# Altium footprint library PcbLib2.PcbLib: 1 footprints
Each footprint in its own frame and in the unit in brackets; x right, y up, seen from the top. Pads: shape width x height; smd on the part's side, far side on the other; paste and mask are expansions set on the pad; w line width, h text height; cw(c..) or ccw(c..) is an arc to the next point about the centre after c.
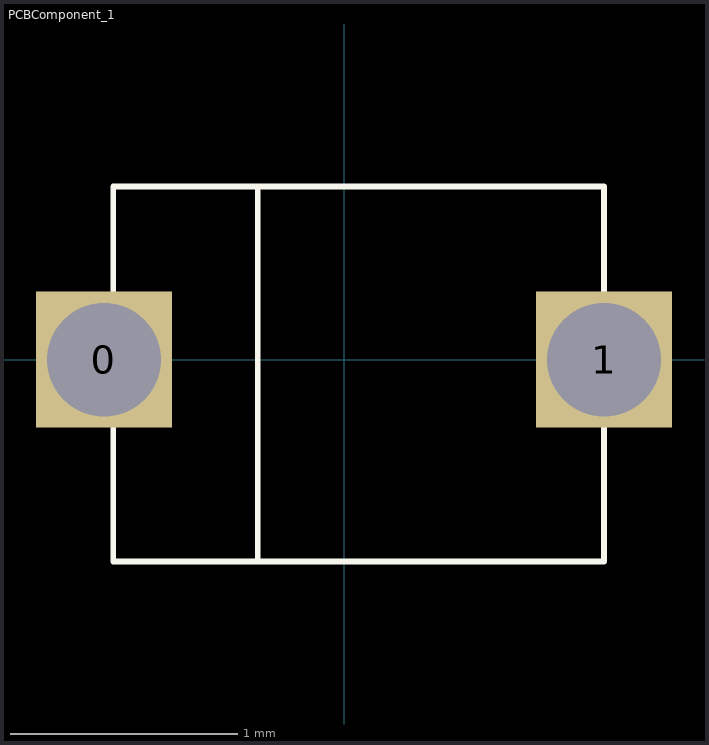
[diagram p0: the footprint, top view; thin cyan lines are the x and y axes]

## PCBComponent_1 [mm]
pads (2):
  rect 0.6x0.6 hole 0.5 square: 0(-1.057,0) 1(1.143,0)
Top Overlay:
  lines w0.025: -0.381,-0.889 -0.381,0.762 ; -1.016,-0.889 1.143,-0.889 1.143,0.762 -1.016,0.762 -1.016,-0.889